# EAGLE library part OP-AMP_BALANCED (library marionette)
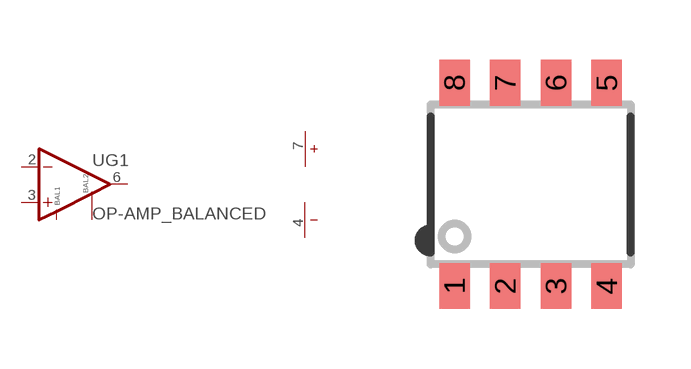
[diagram p20: symbol with the pads of SOIC-8; footprint SOIC-8]

Designator prefix U; gates G1=OPAMP_BALANCED G2=PWR+--1

## OP-AMP_BALANCED  [SOIC-8]
1  G1:BAL1
2  G1:-IN  in
3  G1:+IN  in
4  G2:VSS  pwr
5  G1:BAL2
6  G1:OUT  out
7  G2:VDD  pwr
8  G1:NC

## Footprint SOIC-8 (pad centres in mm)
smd 0.762 x 1.143: 1 -1.905,-2.54; 2 -0.635,-2.54; 3 0.635,-2.54; 4 1.905,-2.54; 5 1.905,2.54; 6 0.635,2.54; 7 -0.635,2.54; 8 -1.905,2.54